# EAGLE library part TB6588FG (library sc_usercreated)
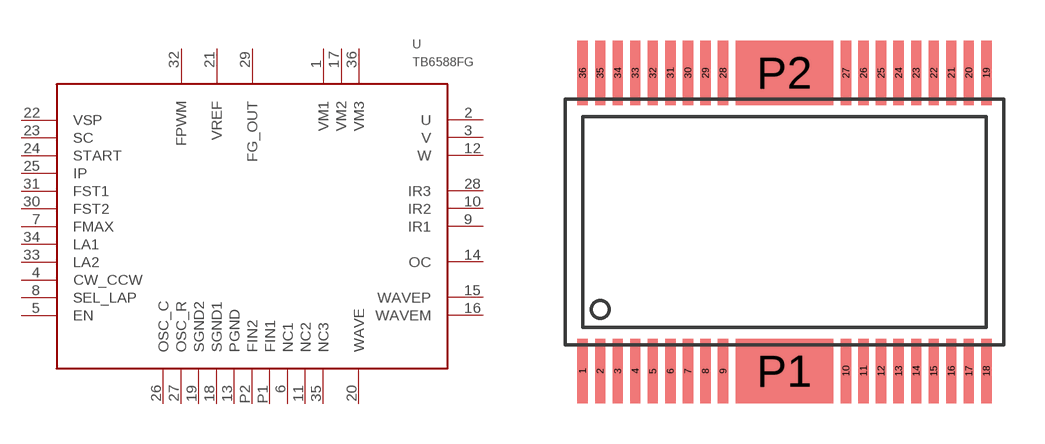
[diagram p26: symbol with the pads of HSOP36-P-450-0.65; footprint HSOP36-P-450-0.65]

Designator prefix U

## TB6588FG  [HSOP36-P-450-0.65]
1  VM1
2  U
3  V
4  CW_CCW
5  EN
6  NC1
7  FMAX
8  SEL_LAP
9  IR1
10  IR2
11  NC2
12  W
13  PGND
14  OC
15  WAVEP
16  WAVEM
17  VM2
18  SGND1
19  SGND2
20  WAVE
21  VREF
22  VSP
23  SC
24  START
25  IP
26  OSC_C
27  OSC_R
28  IR3
29  FG_OUT
30  FST2
31  FST1
32  FPWM
33  LA2
34  LA1
35  NC3
36  VM3
P1  FIN1
P2  FIN2

## Footprint HSOP36-P-450-0.65 (pad centres in mm)
smd 0.38 x 2.4: 1 -7.475,-5.525; 2 -6.825,-5.525; 3 -6.175,-5.525; 4 -5.525,-5.525; 5 -4.875,-5.525; 6 -4.225,-5.525; 7 -3.575,-5.525; 8 -2.925,-5.525; 9 -2.275,-5.525; 10 2.275,-5.525; 11 2.925,-5.525; 12 3.575,-5.525; 13 4.225,-5.525; 14 4.875,-5.525; 15 5.525,-5.525; 16 6.175,-5.525; 17 6.825,-5.525; 18 7.475,-5.525; 19 7.475,5.525; 20 6.825,5.525; 21 6.175,5.525; 22 5.525,5.525; 23 4.875,5.525; 24 4.225,5.525; 25 3.575,5.525; 26 2.925,5.525; 27 2.275,5.525; 28 -2.275,5.525; 29 -2.925,5.525; 30 -3.575,5.525; 31 -4.225,5.525; 32 -4.875,5.525; 33 -5.525,5.525; 34 -6.175,5.525; 35 -6.825,5.525; 36 -7.475,5.525
smd 3.6 x 2.4: P1 0,-5.525; P2 0,5.525